# EAGLE library part 687145149022 (library Eagle_FPC_CONNECTOR_AND_FFC_CAB (rev18c))
WR-FPC 0.50mm SMT Horiz. Bot. Contact Hinge type WR-FPC 0.50mm 45 pins Hinge type SMT Horizontal Bottom Contact ;=>Code : Con_FPC_ZIF_0.50_6871xx149022_687145149022 <http://katalog.we-online.de/media/images/eican/Con_FPC_ZIF_0.50_687115149022_pf2.jpg> Details see: http://katalog.we-online.de/em/datasheet/6871xx149022.pdf Created 2014-10-08, Karrer Zheng 2014 (C) Wurth Elektronik
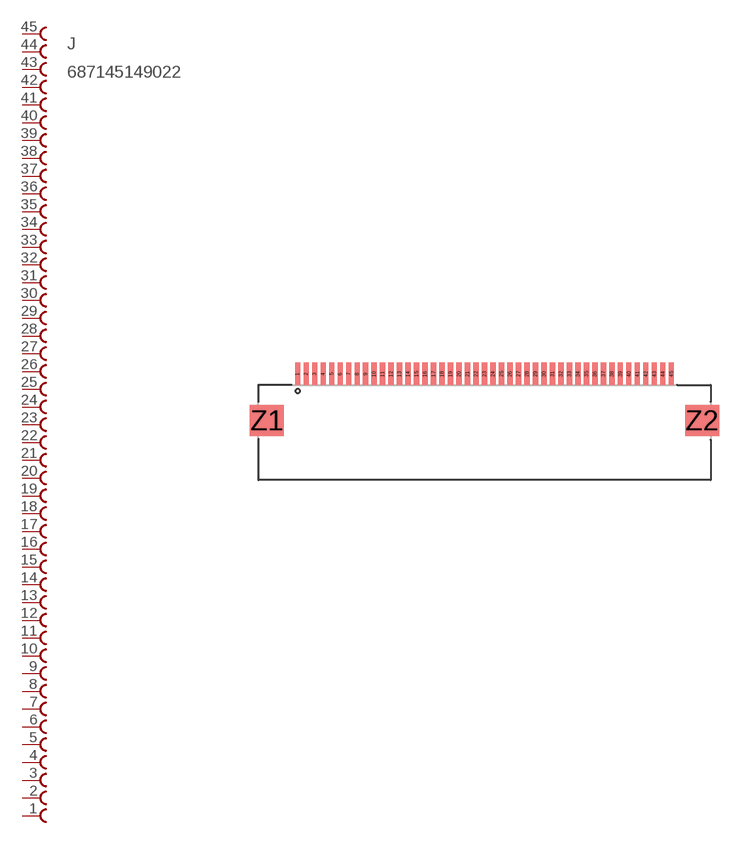
[diagram p124: symbol with the pads of 687145149022; footprint 687145149022]

Designator prefix J

## 687145149022  [687145149022]
1  45  pas
2  44  pas
3  43  pas
4  42  pas
5  41  pas
6  40  pas
7  39  pas
8  38  pas
9  37  pas
10  36  pas
11  35  pas
12  34  pas
13  33  pas
14  32  pas
15  31  pas
16  30  pas
17  29  pas
18  28  pas
19  27  pas
20  26  pas
21  25  pas
22  24  pas
23  23  pas
24  22  pas
25  21  pas
26  20  pas
27  19  pas
28  18  pas
29  17  pas
30  16  pas
31  15  pas
32  14  pas
33  13  pas
34  12  pas
35  11  pas
36  10  pas
37  9  pas
38  8  pas
39  7  pas
40  6  pas
41  5  pas
42  4  pas
43  3  pas
44  2  pas
45  1  pas

## Footprint 687145149022 (pad centres in mm)
WR-FPC 0.50mm SMT Horiz. Bot. Contact Hinge type WR-FPC 0.50mm 45pins Hinge type SMT Horizontal Bottom Contact
smd 0.3 x 1.3: 1 -11,0; 2 -10.5,0; 3 -10,0; 4 -9.5,0; 5 -9,0; 6 -8.5,0; 7 -8,0; 8 -7.5,0; 9 -7,0; 10 -6.5,0; 11 -6,0; 12 -5.5,0; 13 -5,0; 14 -4.5,0; 15 -4,0; 16 -3.5,0; 17 -3,0; 18 -2.5,0; 19 -2,0; 20 -1.5,0; 21 -1,0; 22 -0.5,0; 23 0,0; 24 0.5,0; 25 1,0; 26 1.5,0; 27 2,0; 28 2.5,0; 29 3,0; 30 3.5,0; 31 4,0; 32 4.5,0; 33 5,0; 34 5.5,0; 35 6,0; 36 6.5,0; 37 7,0; 38 7.5,0; 39 8,0; 40 8.5,0; 41 9,0; 42 9.5,0; 43 10,0; 44 10.5,0; 45 11,0
smd 2 x 1.8: Z1 -12.8,-2.75; Z2 12.8,-2.75